# Altium footprint library PCB - LEADLESS - QFN - ANALOG DEVICES LFCSP-20 CP-20-8.PcbLib: 1 footprints
Each footprint in its own frame and in the unit in brackets; x right, y up, seen from the top. Pads: shape width x height; smd on the part's side, far side on the other; paste and mask are expansions set on the pad; w line width, h text height; cw(c..) or ccw(c..) is an arc to the next point about the centre after c.
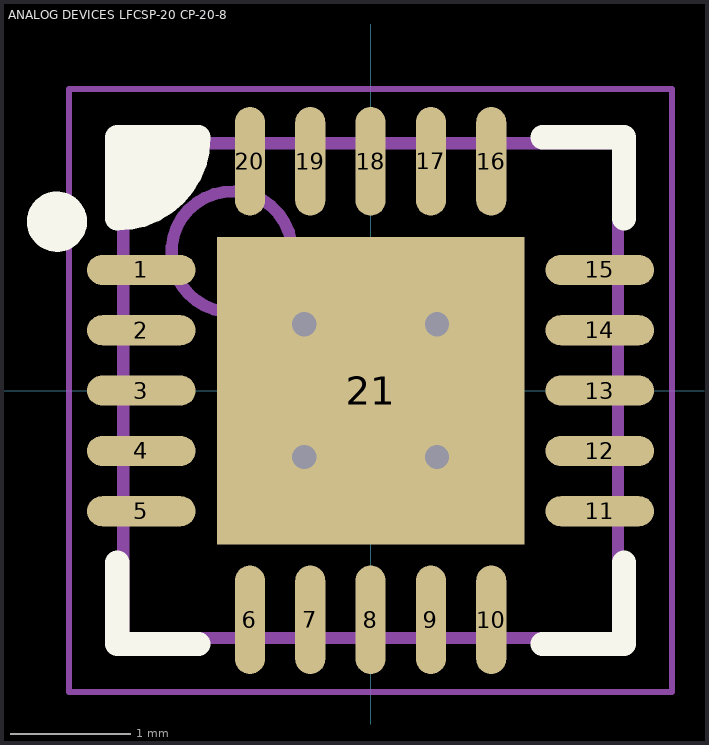
[diagram p0: the footprint, top view; thin cyan lines are the x and y axes]

## ANALOG DEVICES LFCSP-20 CP-20-8 [mm] "LFCSP, 20-Leads, Body 4.00x4.00mm, Pitch 0.50mm, Thermal Pad 2.55x2.55mm"
height 0.8
pads (21):
  oval 0.9x0.25 smd: 1(-1.9,1) 2(-1.9,0.5) 3(-1.9,0) 4(-1.9,-0.5) 5(-1.9,-1) 11(1.9,-1) 12(1.9,-0.5) 13(1.9,0) 14(1.9,0.5) 15(1.9,1)
  oval 0.25x0.9 smd: 6(-1,-1.9) 7(-0.5,-1.9) 8(0,-1.9) 9(0.5,-1.9) 10(1,-1.9) 16(1,1.9) 17(0.5,1.9) 18(0,1.9) 19(-0.5,1.9) 20(-1,1.9)
  rect 2.55x2.55 smd: 21(0,0)
via -0.55,0.55 diameter 0.5 hole 0.2
via 0.55,0.55 diameter 0.5 hole 0.2
via -0.55,-0.55 diameter 0.5 hole 0.2
via 0.55,-0.55 diameter 0.5 hole 0.2
Top Overlay:
  circle w0.25: c-2.6,1.4 r0.125
  region: -2.1,2.1 -1.425,2.1 -1.425,1.775 -1.775,1.425 -2.1,1.425
  lines w0.2: -2.1,-1.425 -2.1,-2.1 -1.425,-2.1 ; 1.425,-2.1 2.1,-2.1 2.1,-1.425 ; 1.425,2.1 2.1,2.1 2.1,1.425 ; -2.1,1.425 ccw(c-2.1,2.1) -1.425,2.1 -2.1,2.1 -2.1,1.425
Mechanical 13:
  circle w0.1: c-1.15,1.15 r0.5
  lines w0.1: -2.05,-2.05 -2.05,2.05 2.05,2.05 2.05,-2.05 -2.05,-2.05
Mechanical 15:
  lines w0.05: -2.5,-2.5 -2.5,2.5 2.5,2.5 2.5,-2.5 -2.5,-2.5
  lines w0.1: -0.5,0 0.5,0 ; 0,-0.5 0,0.5
3D body "ANALOG DEVICES LFCSP-20 CP-20-8.step": height 0.8, standoff 0, extent -2.06,-2.06 2.06,2.06